# EAGLE library part AC-U-SAM9X25 (library at91sam9x25)
Integrated Circuit Atmel SAM9X25 ARM9 processor in TFBGA-217 package.
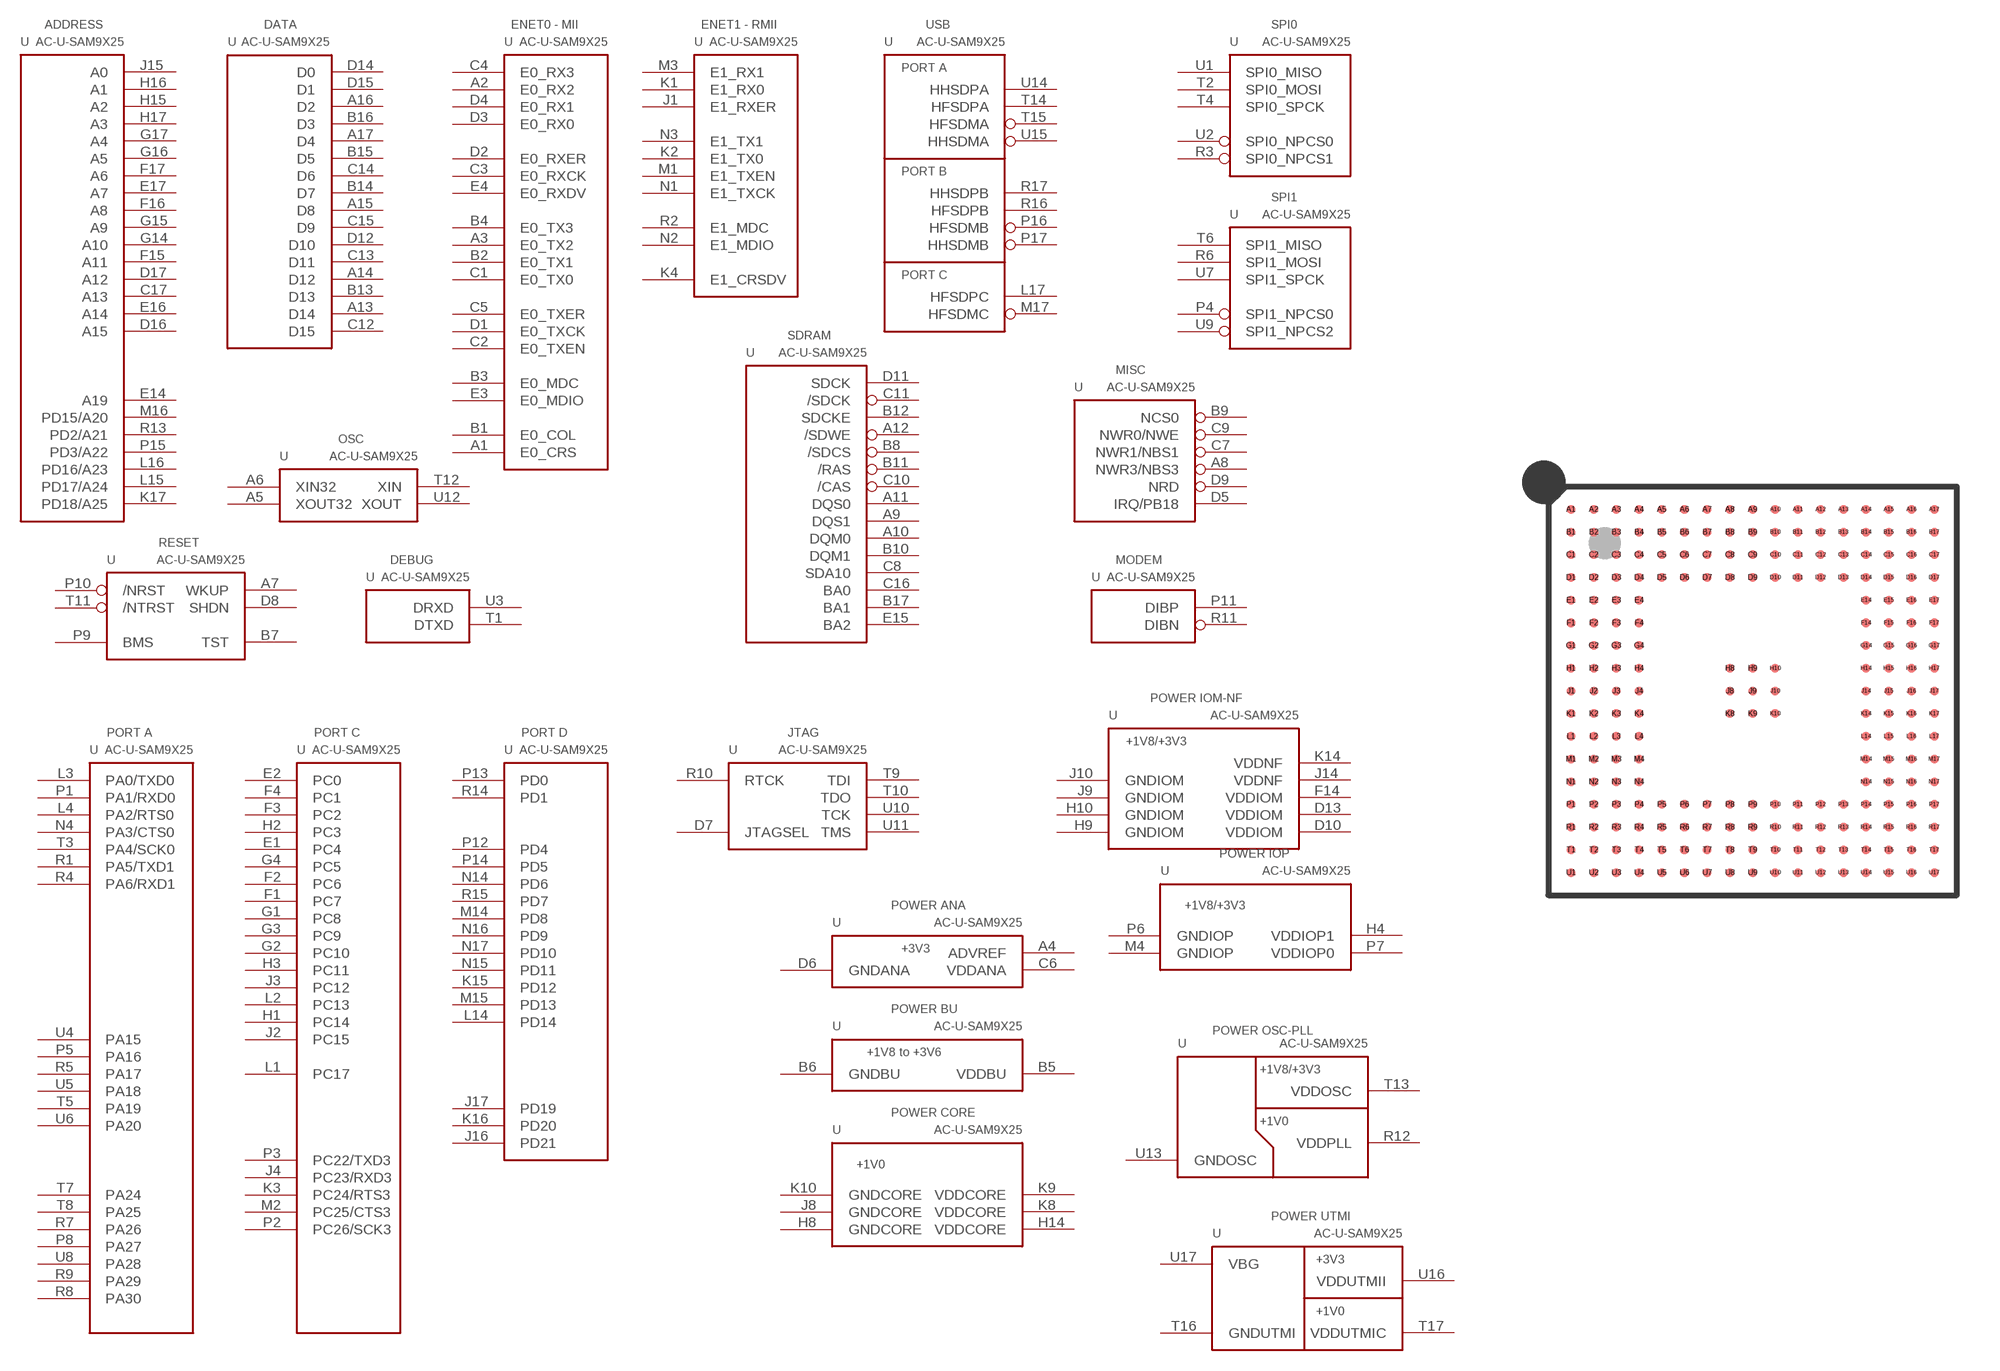
[diagram p0: symbol with the pads of AC-U-TFBGA-217; footprint AC-U-TFBGA-217]

Designator prefix U; gates G$1=AC-U-SAM9X25-SDRAM G$2=AC-U-SAM9X25-ADDRESS G$3=AC-U-SAM9X25-DATA G$4=AC-U-SAM9X25-OSC G$5=AC-U-SAM9X25-ENET0 G$6=AC-U-SAM9X25-ENET1 G$7=AC-U-SAM9X25-RESET G$8=AC-U-SAM9X25-DEBUG G$9=AC-U-SAM9X25-USB G$11=AC-U-SAM9X25-PORT-C G$12=AC-U-SAM9X25-PORT-D G$13=AC-U-SAM9X25-JTAG G$14=AC-U-SAM9X25-PWR-ANA G$15=AC-U-SAM9X25-PWR-BU G$16=AC-U-SAM9X25-PWR-CORE G$17=AC-U-SAM9X25-PWR-IOM-NF G$18=AC-U-SAM9X25-PWR-IOP G$19=AC-U-SAM9X25-PWR-OSC-PLL G$20=AC-U-SAM9X25-PWR-UTMI G$10=AC-U-SAM9X25-PORT-A G$22=AC-U-SAM9X25-SPI0 G$23=AC-U-SAM9X25-SPI1 G$21=AC-U-SAM9X25-MISC G$24=AC-U-SAM9X25-MODEM

## AC-U-SAM9X25  [AC-U-TFBGA-217]
A1  G$5:E0_CRS  in
A2  G$5:E0_RX2  in
A3  G$5:E0_TX2  out
A4  G$14:ADVREF  pas
A5  G$4:XOUT32  out
A6  G$4:XIN32  in
A7  G$7:WKUP  in
A8  G$21:NWR3/NBS3  out
A9  G$1:DQS1  out
A10  G$1:DQM0  out
A11  G$1:DQS0  out
A12  G$1:/SDWE  out
A13  G$3:D14
A14  G$3:D12
A15  G$3:D8
A16  G$3:D2
A17  G$3:D4
B1  G$5:E0_COL  in
B2  G$5:E0_TX1  out
B3  G$5:E0_MDC  out
B4  G$5:E0_TX3  out
B5  G$15:VDDBU  pwr
B6  G$15:GNDBU  pwr
B7  G$7:TST  in
B8  G$1:/SDCS  out
B9  G$21:NCS0  out
B10  G$1:DQM1  out
B11  G$1:/RAS  out
B12  G$1:SDCKE  out
B13  G$3:D13
B14  G$3:D7
B15  G$3:D5
B16  G$3:D3
B17  G$1:BA1  out
C1  G$5:E0_TX0  out
C2  G$5:E0_TXEN  out
C3  G$5:E0_RXCK  in
C4  G$5:E0_RX3  in
C5  G$5:E0_TXER  out
C6  G$14:VDDANA  pwr
C7  G$21:NWR1/NBS1  out
C8  G$1:SDA10  out
C9  G$21:NWR0/NWE  out
C10  G$1:/CAS  out
C11  G$1:/SDCK  out
C12  G$3:D15
C13  G$3:D11
C14  G$3:D6
C15  G$3:D9
C16  G$1:BA0  out
C17  G$2:A13  out
D1  G$5:E0_TXCK  in
D2  G$5:E0_RXER  in
D3  G$5:E0_RX0  in
D4  G$5:E0_RX1  in
D5  G$21:IRQ/PB18
D6  G$14:GNDANA  pwr
D7  G$13:JTAGSEL  in
D8  G$7:SHDN  out
D9  G$21:NRD  out
D10  G$17:VDDIOM  pwr
D11  G$1:SDCK  out
D12  G$3:D10
D13  G$17:VDDIOM  pwr
D14  G$3:D0
D15  G$3:D1
D16  G$2:A15  out
D17  G$2:A12  out
E1  G$11:PC4
E2  G$11:PC0
E3  G$5:E0_MDIO
E4  G$5:E0_RXDV  in
E14  G$2:A19  out
E15  G$1:BA2  out
E16  G$2:A14  out
E17  G$2:A7  out
F1  G$11:PC7
F2  G$11:PC6
F3  G$11:PC2
F4  G$11:PC1
F14  G$17:VDDIOM  pwr
F15  G$2:A11  out
F16  G$2:A8  out
F17  G$2:A6  out
G1  G$11:PC8
G2  G$11:PC10
G3  G$11:PC9
G4  G$11:PC5
G14  G$2:A10  out
G15  G$2:A9  out
G16  G$2:A5  out
G17  G$2:A4  out
H1  G$11:PC14
H2  G$11:PC3
H3  G$11:PC11
H4  G$18:VDDIOP1  pwr
H8  G$16:GNDCORE  pwr
H9  G$17:GNDIOM  pwr
H10  G$17:GNDIOM  pwr
H14  G$16:VDDCORE  pwr
H15  G$2:A2  out
H16  G$2:A1  out
H17  G$2:A3  out
J1  G$6:E1_RXER  in
J2  G$11:PC15
J3  G$11:PC12
J4  G$11:PC23/RXD3
J8  G$16:GNDCORE  pwr
J9  G$17:GNDIOM  pwr
J10  G$17:GNDIOM  pwr
J14  G$17:VDDNF  pwr
J15  G$2:A0  out
J16  G$12:PD21
J17  G$12:PD19
K1  G$6:E1_RX0  in
K2  G$6:E1_TX0  out
K3  G$11:PC24/RTS3
K4  G$6:E1_CRSDV  in
K8  G$16:VDDCORE  pwr
K9  G$16:VDDCORE  pwr
K10  G$16:GNDCORE  pwr
K14  G$17:VDDNF  pwr
K15  G$12:PD12
K16  G$12:PD20
K17  G$2:PD18/A25  out
L1  G$11:PC17
L2  G$11:PC13
L3  G$10:PA0/TXD0
L4  G$10:PA2/RTS0
L14  G$12:PD14
L15  G$2:PD17/A24  out
L16  G$2:PD16/A23  out
L17  G$9:HFSDPC  pas
M1  G$6:E1_TXEN  out
M2  G$11:PC25/CTS3
M3  G$6:E1_RX1  in
M4  G$18:GNDIOP  pwr
M14  G$12:PD8
M15  G$12:PD13
M16  G$2:PD15/A20  out
M17  G$9:HFSDMC  pas
N1  G$6:E1_TXCK  in
N2  G$6:E1_MDIO
N3  G$6:E1_TX1  out
N4  G$10:PA3/CTS0
N14  G$12:PD6
N15  G$12:PD11
N16  G$12:PD9
N17  G$12:PD10
P1  G$10:PA1/RXD0
P2  G$11:PC26/SCK3
P3  G$11:PC22/TXD3
P4  G$23:SPI1_NPCS0  out
P5  G$10:PA16
P6  G$18:GNDIOP  pwr
P7  G$18:VDDIOP0  pwr
P8  G$10:PA27
P9  G$7:BMS  in
P10  G$7:/NRST
P11  G$24:DIBP  pas
P12  G$12:PD4
P13  G$12:PD0
P14  G$12:PD5
P15  G$2:PD3/A22  out
P16  G$9:HFSDMB  pas
P17  G$9:HHSDMB  pas
R1  G$10:PA5/TXD1
R2  G$6:E1_MDC  out
R3  G$22:SPI0_NPCS1  out
R4  G$10:PA6/RXD1
R5  G$10:PA17
R6  G$23:SPI1_MOSI  out
R7  G$10:PA26
R8  G$10:PA30
R9  G$10:PA29
R10  G$13:RTCK  out
R11  G$24:DIBN  pas
R12  G$19:VDDPLL  pwr
R13  G$2:PD2/A21  out
R14  G$12:PD1
R15  G$12:PD7
R16  G$9:HFSDPB  pas
R17  G$9:HHSDPB  pas
T1  G$8:DTXD  out
T2  G$22:SPI0_MOSI  out
T3  G$10:PA4/SCK0
T4  G$22:SPI0_SPCK  out
T5  G$10:PA19
T6  G$23:SPI1_MISO  in
T7  G$10:PA24
T8  G$10:PA25
T9  G$13:TDI  in
T10  G$13:TDO  out
T11  G$7:/NTRST  in
T12  G$4:XIN  in
T13  G$19:VDDOSC  pwr
T14  G$9:HFSDPA  pas
T15  G$9:HFSDMA  pas
T16  G$20:GNDUTMI  pwr
T17  G$20:VDDUTMIC  pwr
U1  G$22:SPI0_MISO  in
U2  G$22:SPI0_NPCS0  out
U3  G$8:DRXD  in
U4  G$10:PA15
U5  G$10:PA18
U6  G$10:PA20
U7  G$23:SPI1_SPCK  out
U8  G$10:PA28
U9  G$23:SPI1_NPCS2  out
U10  G$13:TCK  in
U11  G$13:TMS  in
U12  G$4:XOUT  out
U13  G$19:GNDOSC  pwr
U14  G$9:HHSDPA  pas
U15  G$9:HHSDMA  pas
U16  G$20:VDDUTMII  pwr
U17  G$20:VBG  pas

## Footprint AC-U-TFBGA-217 (pad centres in mm)
Integrated Circuit TFBGA-217 Atmel SOC, Pitch 0.80, Outline 15x15 mm Pads 0.3 mm, solder mask 0.5 mm (based on ball size 0.45 and ball land 0.4 mm) SAM9X25
smd 0.3 x 0.3: A1 -6.4,6.4; A2 -5.6,6.4; A3 -4.8,6.4; A4 -4,6.4; A5 -3.2,6.4; A6 -2.4,6.4; A7 -1.6,6.4; A8 -0.8,6.4; A9 0,6.4; A10 0.8,6.4; A11 1.6,6.4; A12 2.4,6.4; A13 3.2,6.4; A14 4,6.4; A15 4.8,6.4; A16 5.6,6.4; A17 6.4,6.4; B1 -6.4,5.6; B2 -5.6,5.6; B3 -4.8,5.6; B4 -4,5.6; B5 -3.2,5.6; B6 -2.4,5.6; B7 -1.6,5.6; B8 -0.8,5.6; B9 0,5.6; B10 0.8,5.6; B11 1.6,5.6; B12 2.4,5.6; B13 3.2,5.6; B14 4,5.6; B15 4.8,5.6; B16 5.6,5.6; B17 6.4,5.6; C1 -6.4,4.8; C2 -5.6,4.8; C3 -4.8,4.8; C4 -4,4.8; C5 -3.2,4.8; C6 -2.4,4.8; C7 -1.6,4.8; C8 -0.8,4.8; C9 0,4.8; C10 0.8,4.8; C11 1.6,4.8; C12 2.4,4.8; C13 3.2,4.8; C14 4,4.8; C15 4.8,4.8; C16 5.6,4.8; C17 6.4,4.8; D1 -6.4,4; D2 -5.6,4; D3 -4.8,4; D4 -4,4; D5 -3.2,4; D6 -2.4,4; D7 -1.6,4; D8 -0.8,4; D9 0,4; D10 0.8,4; D11 1.6,4; D12 2.4,4; D13 3.2,4; D14 4,4; D15 4.8,4; D16 5.6,4; D17 6.4,4; E1 -6.4,3.2; E2 -5.6,3.2; E3 -4.8,3.2; E4 -4,3.2; E14 4,3.2; E15 4.8,3.2; E16 5.6,3.2; E17 6.4,3.2; F1 -6.4,2.4; F2 -5.6,2.4; F3 -4.8,2.4; F4 -4,2.4; F14 4,2.4; F15 4.8,2.4; F16 5.6,2.4; F17 6.4,2.4; G1 -6.4,1.6; G2 -5.6,1.6; G3 -4.8,1.6; G4 -4,1.6; G14 4,1.6; G15 4.8,1.6; G16 5.6,1.6; G17 6.4,1.6; H1 -6.4,0.8; H2 -5.6,0.8; H3 -4.8,0.8; H4 -4,0.8; H8 -0.8,0.8; H9 0,0.8; H10 0.8,0.8; H14 4,0.8; H15 4.8,0.8; H16 5.6,0.8; H17 6.4,0.8; J1 -6.4,0; J2 -5.6,0; J3 -4.8,0; J4 -4,0; J8 -0.8,0; J9 0,0; J10 0.8,0; J14 4,0; J15 4.8,0; J16 5.6,0; J17 6.4,0; K1 -6.4,-0.8; K2 -5.6,-0.8; K3 -4.8,-0.8; K4 -4,-0.8; K8 -0.8,-0.8; K9 0,-0.8; K10 0.8,-0.8; K14 4,-0.8; K15 4.8,-0.8; K16 5.6,-0.8; K17 6.4,-0.8; L1 -6.4,-1.6; L2 -5.6,-1.6; L3 -4.8,-1.6; L4 -4,-1.6; L14 4,-1.6; L15 4.8,-1.6; L16 5.6,-1.6; L17 6.4,-1.6; M1 -6.4,-2.4; M2 -5.6,-2.4; M3 -4.8,-2.4; M4 -4,-2.4; M14 4,-2.4; M15 4.8,-2.4; M16 5.6,-2.4; M17 6.4,-2.4; N1 -6.4,-3.2; N2 -5.6,-3.2; N3 -4.8,-3.2; N4 -4,-3.2; N14 4,-3.2; N15 4.8,-3.2; N16 5.6,-3.2; N17 6.4,-3.2; P1 -6.4,-4; P2 -5.6,-4; P3 -4.8,-4; P4 -4,-4; P5 -3.2,-4; P6 -2.4,-4; P7 -1.6,-4; P8 -0.8,-4; P9 0,-4; P10 0.8,-4; P11 1.6,-4; P12 2.4,-4; P13 3.2,-4; P14 4,-4; P15 4.8,-4; P16 5.6,-4; P17 6.4,-4; R1 -6.4,-4.8; R2 -5.6,-4.8; R3 -4.8,-4.8; R4 -4,-4.8; R5 -3.2,-4.8; R6 -2.4,-4.8; R7 -1.6,-4.8; R8 -0.8,-4.8; R9 0,-4.8; R10 0.8,-4.8; R11 1.6,-4.8; R12 2.4,-4.8; R13 3.2,-4.8; R14 4,-4.8; R15 4.8,-4.8; R16 5.6,-4.8; R17 6.4,-4.8; T1 -6.4,-5.6; T2 -5.6,-5.6; T3 -4.8,-5.6; T4 -4,-5.6; T5 -3.2,-5.6; T6 -2.4,-5.6; T7 -1.6,-5.6; T8 -0.8,-5.6; T9 0,-5.6; T10 0.8,-5.6; T11 1.6,-5.6; T12 2.4,-5.6; T13 3.2,-5.6; T14 4,-5.6; T15 4.8,-5.6; T16 5.6,-5.6; T17 6.4,-5.6; U1 -6.4,-6.4; U2 -5.6,-6.4; U3 -4.8,-6.4; U4 -4,-6.4; U5 -3.2,-6.4; U6 -2.4,-6.4; U7 -1.6,-6.4; U8 -0.8,-6.4; U9 0,-6.4; U10 0.8,-6.4; U11 1.6,-6.4; U12 2.4,-6.4; U13 3.2,-6.4; U14 4,-6.4; U15 4.8,-6.4; U16 5.6,-6.4; U17 6.4,-6.4